# Altium integrated library TI Interface Line Driver.IntLib: 130 symbols (part 2 of 3)
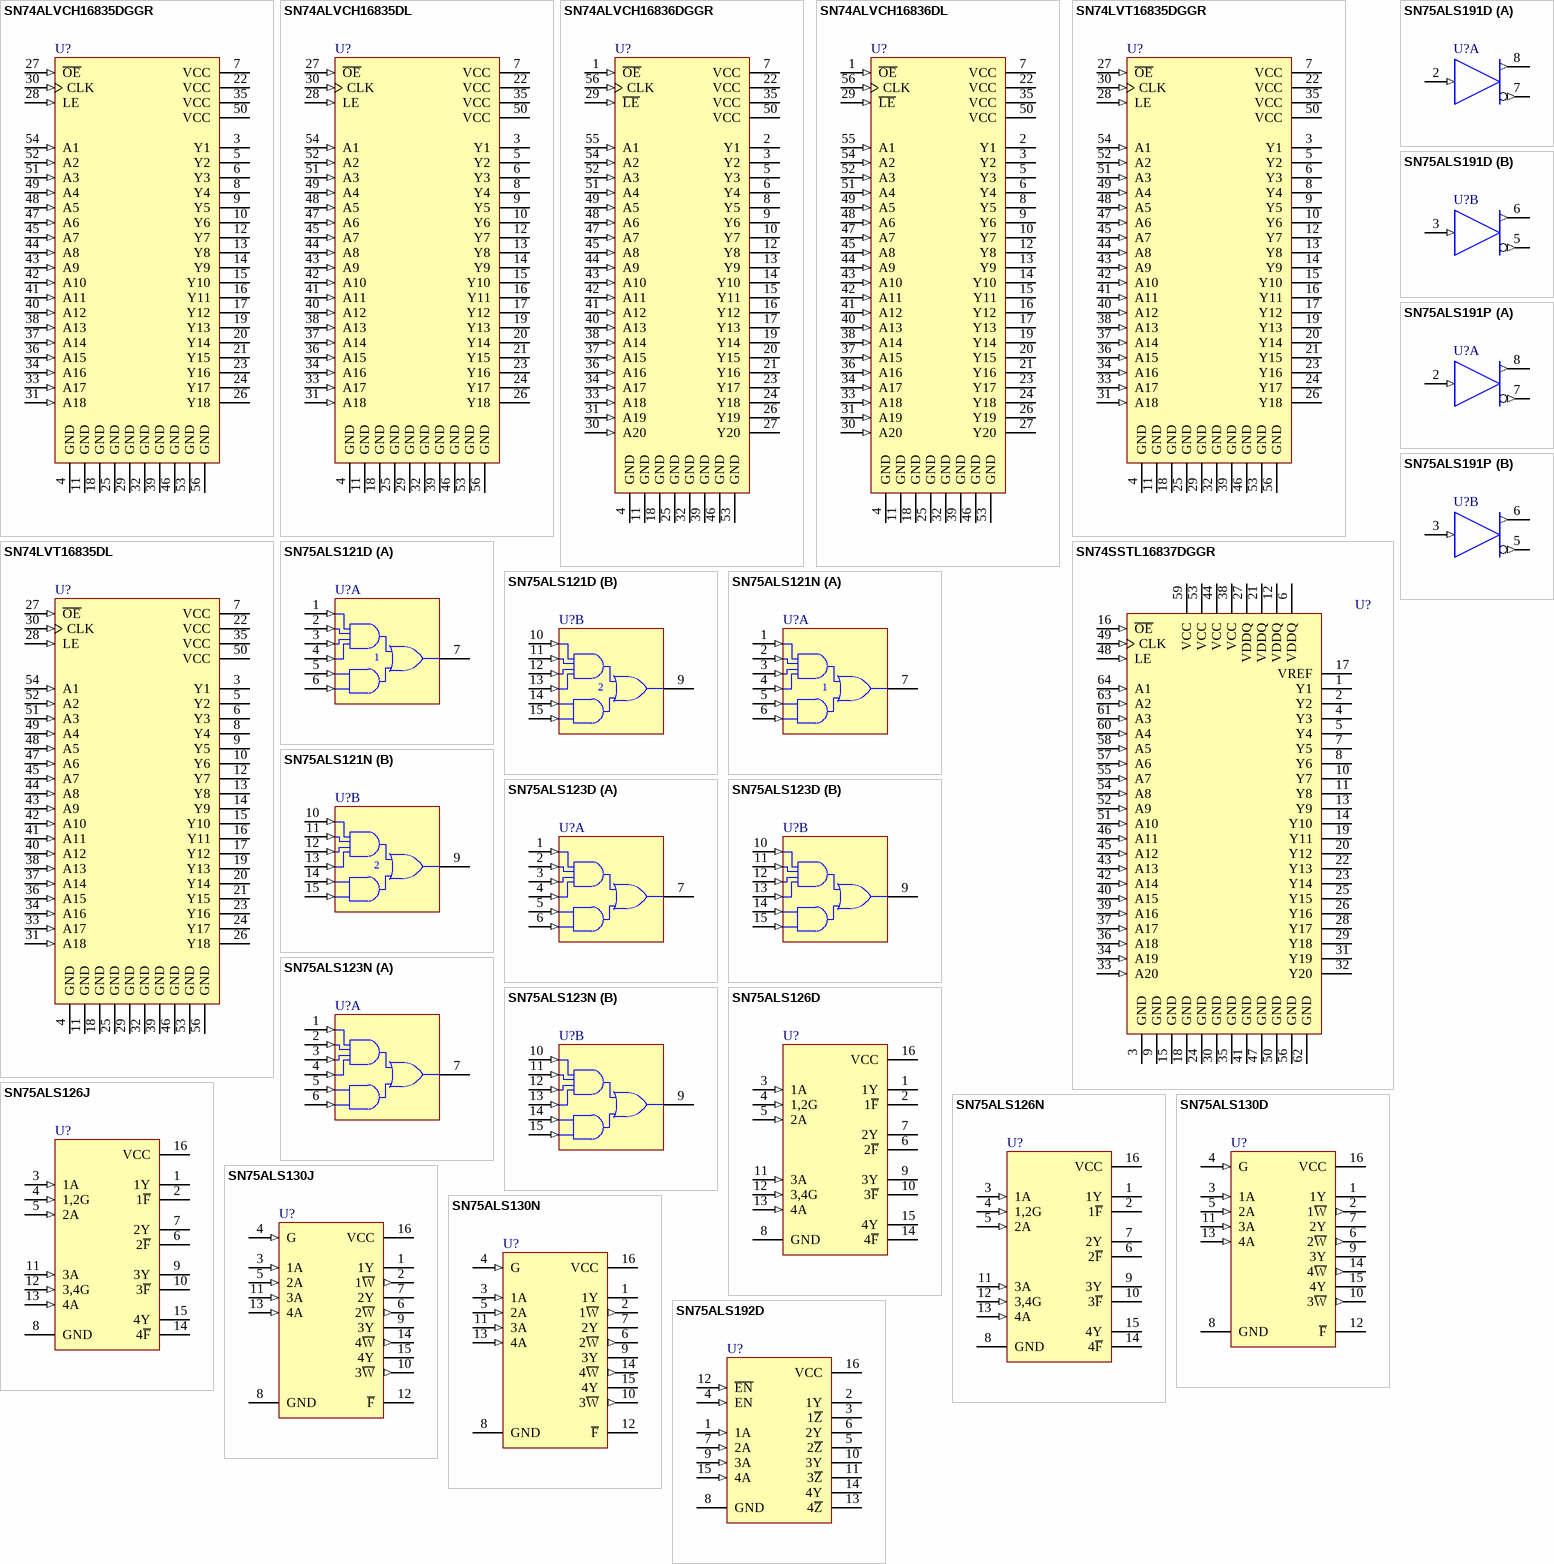
[diagram p5: symbols SN74ALVCH16835DGGR to SN75ALS192D]

## SN75ALS191D
designator U?
Dual Differential Line Driver; Published: 15-May-2002; LatestRevisionDate: 13-Apr-2006; LatestRevisionNote: IPC-7351 Footprint Added.; DatasheetVersion: Aug-1989; PackageVersion: Nov-2006; PackageReference: D008; Publisher: Altium Limited; PackageDescription: 8-Pin Small Outline Integrated Circuit 1.27 mm Pitch; Code_JEDEC: MS-012-AA; Code_IPC: SOIC127P600-8; ComponentLink1Description: Manufacturer Link; ComponentLink1URL: http://www.ti.com/; ComponentLink2Description: Datasheet; ComponentLink2URL: http://www-s.ti.com/sc/ds/sn75als191.pdf
footprint D008_N (SOIC, 8-Leads, Body 4.9x3.9mm, Pitch 1.27mm, IPC Medium Density)
footprint D008_L (SOIC, 8-Leads, Body 4.9x3.9mm, Pitch 1.27mm, IPC High Density)
footprint D008_M (SOIC, 8-Leads, Body 4.9x3.9mm, Pitch 1.27mm, IPC Low Density)
3D model D008 (8-Pin Small Outline Integrated Circuit 1.27 mm Pitch)
pins on every part: 1 VCC (power) hidden to VCC, 4 GND (power) hidden to GND
part A pins: 2 1A (in), 7 1Z (out), 8 1Y (out)
part B pins: 3 2A (in), 5 2Z (out), 6 2Y (out)

## SN75ALS191P
designator U?
Dual Differential Line Driver; Published: 15-May-2002; LatestRevisionDate: 29-May-2009; LatestRevisionNote: Component Body Added.; DatasheetVersion: Aug-1989; PackageVersion: Jun-1999; PackageReference: P008; Publisher: Altium Limited; PackageDescription: DIP, 8-Pin, Row Spacing 7.62 mm, Pitch 2.54 mm; Code_JEDEC: MO-001-AN; ComponentLink1Description: Manufacturer Link; ComponentLink1URL: http://www.ti.com/; ComponentLink2Description: Datasheet; ComponentLink2URL: http://www-s.ti.com/sc/ds/sn75als191.pdf
footprint P008 (DIP, 8-Leads, Row Spacing 7.62mm, Pitch 2.54mm, Body 9.81x6.35mm)
3D model P008 (DIP, 8-Pin, Row Spacing 7.62 mm, Pitch 2.54 mm)
pins on every part: 1 VCC (power) hidden to VCC, 4 GND (power) hidden to GND
part A pins: 2 1A (in), 7 1Z (out), 8 1Y (out)
part B pins: 3 2A (in), 5 2Z (out), 6 2Y (out)

## SN75ALS192D
designator U?
Quadruple Differential Line Driver; Published: 15-May-2002; LatestRevisionDate: 13-Apr-2006; LatestRevisionNote: IPC-7351 Footprint Added.; DatasheetVersion: Jun-1986; PackageVersion: Jan-1998; PackageReference: D016; Publisher: Altium Limited; PackageDescription: 16-Pin Small Outline Integrated Circuit 1.27 mm Pitch; Code_IPC: SOIC127P600-16; ComponentLink1Description: Manufacturer Link; ComponentLink1URL: http://www.ti.com/; ComponentLink2Description: Datasheet; ComponentLink2URL: http://www-s.ti.com/sc/ds/sn75als192.pdf
footprint D016_N (SOIC, 16-Leads, Body 9.9x3.9mm, Pitch 1.27mm, IPC Medium Density)
footprint D016_L (SOIC, 16-Leads, Body 9.9x3.9mm, Pitch 1.27mm, IPC High Density)
footprint D016_M (SOIC, 16-Leads, Body 9.9x3.9mm, Pitch 1.27mm, IPC Low Density)
3D model D016 (16-Pin Small Outline Integrated Circuit 1.27 mm Pitch)
pins: 1 1A (in), 2 1Y (hiz), 3 1~{Z} (hiz), 4 EN (in), 5 2~{Z} (hiz), 6 2Y (hiz), 7 2A (in), 8 GND (power), 9 3A (in), 10 3Y (hiz), 11 3~{Z} (hiz), 12 ~{EN} (in), 13 4~{Z} (hiz), 14 4Y (hiz), 15 4A (in), 16 VCC (power)

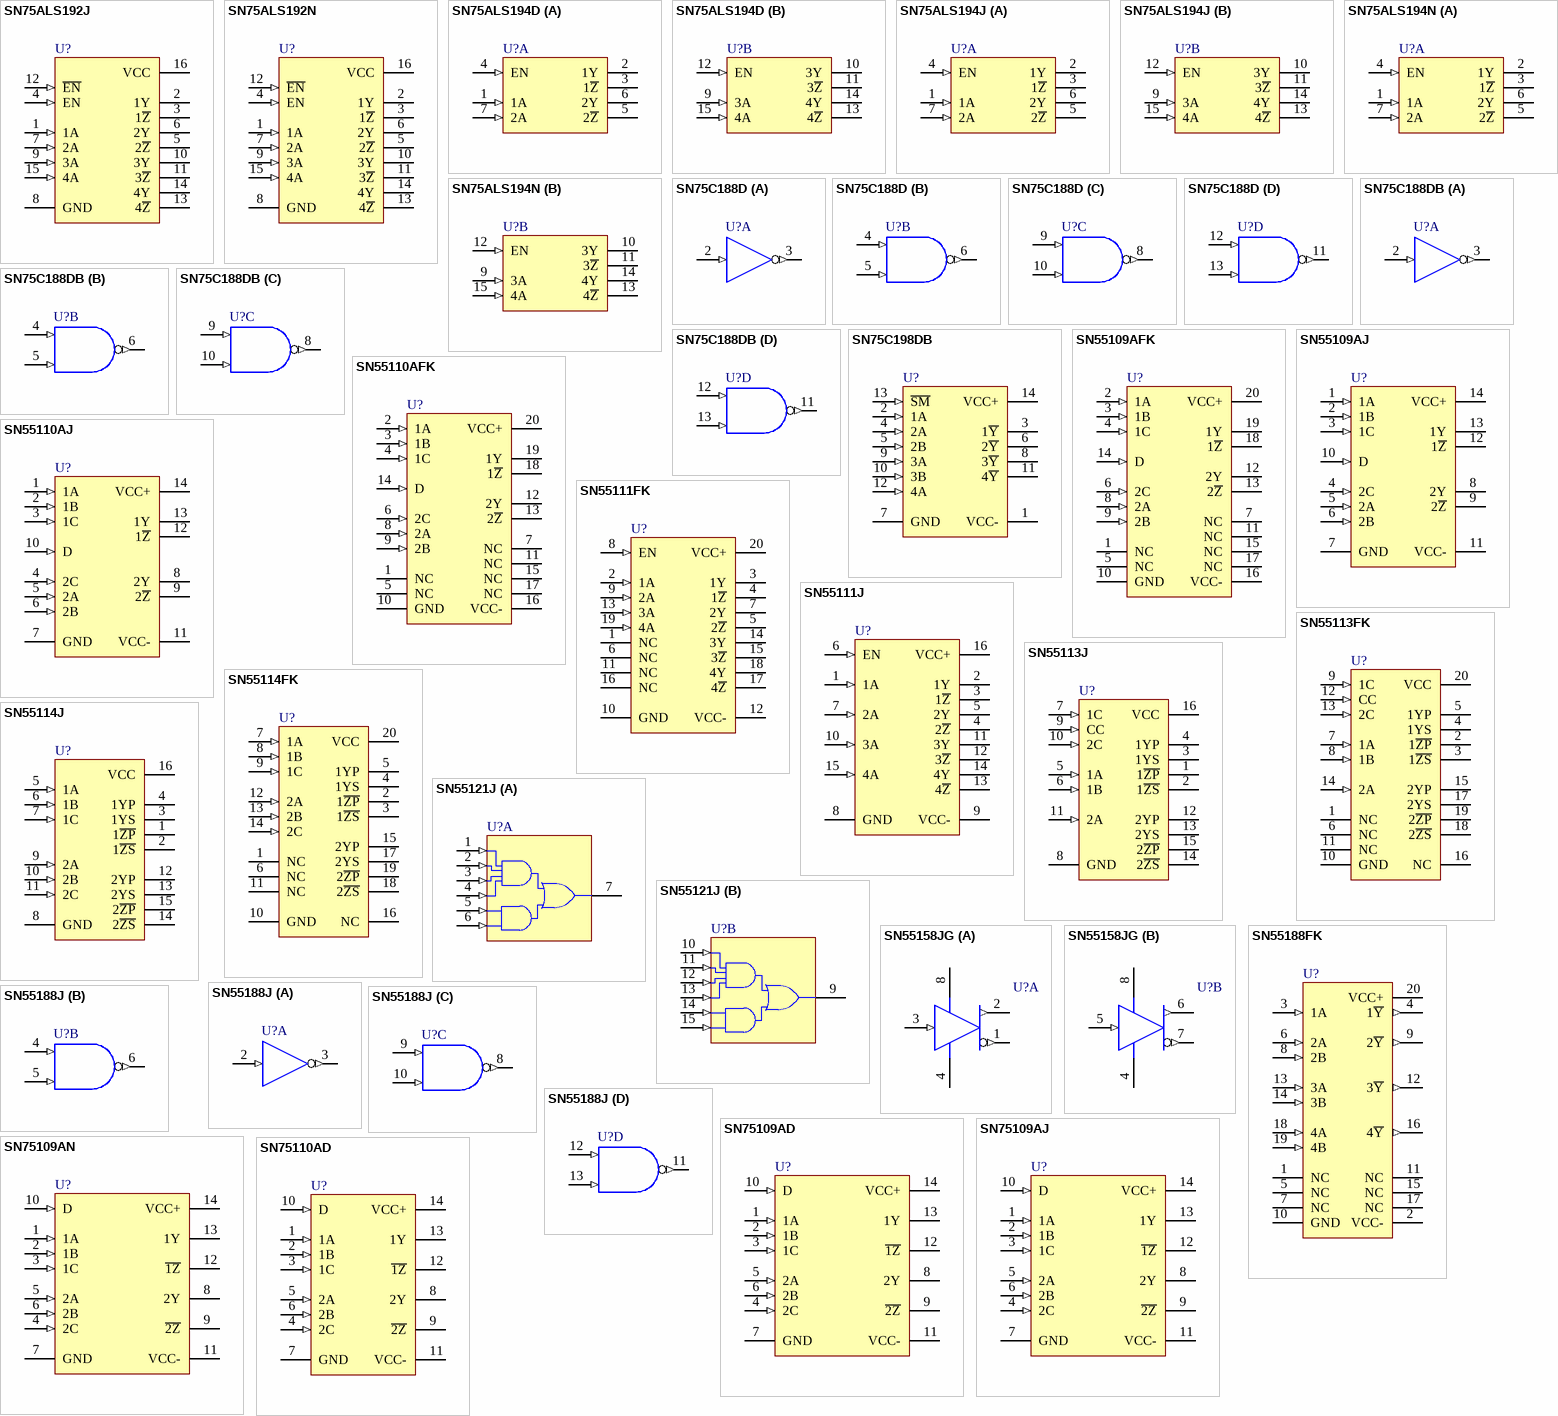
[diagram p2: symbols SN75ALS192J to SN75110AD]

## SN75ALS192J
designator U?
Quadruple Differential Line Driver; Published: 15-May-2002; LatestRevisionDate: 29-May-2009; LatestRevisionNote: Component Body Added.; DatasheetVersion: Jun-1986; PackageVersion: Jun-1999; PackageReference: J016; Publisher: Altium Limited; PackageDescription: DIP, Ceramic, 16-Pin, Row Spacing 7.62 mm, Pitch 2.54 mm; ComponentLink1Description: Manufacturer Link; ComponentLink1URL: http://www.ti.com/
footprint J016 (DIP, 16-Leads, Row Spacing 7.62mm, Pitch 2.54mm, Body 19.56x6.92mm)
3D model J016 (DIP, Ceramic, 16-Pin, Row Spacing 7.62 mm, Pitch 2.54 mm)
pins: 1 1A (in), 2 1Y (hiz), 3 1~{Z} (hiz), 4 EN (in), 5 2~{Z} (hiz), 6 2Y (hiz), 7 2A (in), 8 GND (power), 9 3A (in), 10 3Y (hiz), 11 3~{Z} (hiz), 12 ~{EN} (in), 13 4~{Z} (hiz), 14 4Y (hiz), 15 4A (in), 16 VCC (power)

## SN75ALS192N
designator U?
Quadruple Differential Line Driver; Published: 15-May-2002; LatestRevisionDate: 29-May-2009; LatestRevisionNote: Component Body Added.; DatasheetVersion: Jun-1986; PackageVersion: Oct-1995; PackageReference: N016; Publisher: Altium Limited; PackageDescription: DIP, 16-Pin, Row Spacing 7.62 mm, Pitch 2.54 mm; Code_JEDEC: MS-001-BB; ComponentLink1Description: Manufacturer Link; ComponentLink1URL: http://www.ti.com/; ComponentLink2Description: Datasheet; ComponentLink2URL: http://www-s.ti.com/sc/ds/sn75als192.pdf
footprint N016 (DIP, 16-Leads, Row Spacing 7.62mm, Pitch 2.54mm, Body 19.31x6.35mm)
3D model N016 (DIP, 16-Pin, Row Spacing 7.62 mm, Pitch 2.54 mm)
pins: 1 1A (in), 2 1Y (hiz), 3 1~{Z} (hiz), 4 EN (in), 5 2~{Z} (hiz), 6 2Y (hiz), 7 2A (in), 8 GND (power), 9 3A (in), 10 3Y (hiz), 11 3~{Z} (hiz), 12 ~{EN} (in), 13 4~{Z} (hiz), 14 4Y (hiz), 15 4A (in), 16 VCC (power)

## SN75ALS194D
designator U?
Quadruple Differential Line Driver with 3-State Output; Published: 15-May-2002; LatestRevisionDate: 13-Apr-2006; LatestRevisionNote: IPC-7351 Footprint Added.; DatasheetVersion: Oct-1988; PackageVersion: Jan-1998; PackageReference: D016; Publisher: Altium Limited; PackageDescription: 16-Pin Small Outline Integrated Circuit 1.27 mm Pitch; Code_IPC: SOIC127P600-16; ComponentLink1Description: Manufacturer Link; ComponentLink1URL: http://www.ti.com/; ComponentLink2Description: Datasheet; ComponentLink2URL: http://www-s.ti.com/sc/ds/sn75als194.pdf
footprint D016_N (SOIC, 16-Leads, Body 9.9x3.9mm, Pitch 1.27mm, IPC Medium Density)
footprint D016_L (SOIC, 16-Leads, Body 9.9x3.9mm, Pitch 1.27mm, IPC High Density)
footprint D016_M (SOIC, 16-Leads, Body 9.9x3.9mm, Pitch 1.27mm, IPC Low Density)
3D model D016 (16-Pin Small Outline Integrated Circuit 1.27 mm Pitch)
pins on every part: 8 GND (power) hidden to GND, 16 VCC (power) hidden to VCC
part A pins: 1 1A (in), 2 1Y (hiz), 3 1~{Z} (hiz), 4 EN (in), 5 2~{Z} (hiz), 6 2Y (hiz), 7 2A (in)
part B pins: 9 3A (in), 10 3Y (hiz), 11 3~{Z} (hiz), 12 EN (in), 13 4~{Z} (hiz), 14 4Y (hiz), 15 4A (in)

## SN75ALS194J
designator U?
Quadruple Differential Line Driver with 3-State Output; Published: 15-May-2002; LatestRevisionDate: 29-May-2009; LatestRevisionNote: Component Body Added.; DatasheetVersion: Oct-1988; PackageVersion: Jun-1999; PackageReference: J016; Publisher: Altium Limited; PackageDescription: DIP, Ceramic, 16-Pin, Row Spacing 7.62 mm, Pitch 2.54 mm; ComponentLink1Description: Manufacturer Link; ComponentLink1URL: http://www.ti.com/
footprint J016 (DIP, 16-Leads, Row Spacing 7.62mm, Pitch 2.54mm, Body 19.56x6.92mm)
3D model J016 (DIP, Ceramic, 16-Pin, Row Spacing 7.62 mm, Pitch 2.54 mm)
pins on every part: 8 GND (power) hidden to GND, 16 VCC (power) hidden to VCC
part A pins: 1 1A (in), 2 1Y (hiz), 3 1~{Z} (hiz), 4 EN (in), 5 2~{Z} (hiz), 6 2Y (hiz), 7 2A (in)
part B pins: 9 3A (in), 10 3Y (hiz), 11 3~{Z} (hiz), 12 EN (in), 13 4~{Z} (hiz), 14 4Y (hiz), 15 4A (in)

## SN75ALS194N
designator U?
Quadruple Differential Line Driver with 3-State Output; Published: 15-May-2002; LatestRevisionDate: 29-May-2009; LatestRevisionNote: Component Body Added.; DatasheetVersion: Oct-1988; PackageVersion: Oct-1995; PackageReference: N016; Publisher: Altium Limited; PackageDescription: DIP, 16-Pin, Row Spacing 7.62 mm, Pitch 2.54 mm; Code_JEDEC: MS-001-BB; ComponentLink1Description: Manufacturer Link; ComponentLink1URL: http://www.ti.com/; ComponentLink2Description: Datasheet; ComponentLink2URL: http://www-s.ti.com/sc/ds/sn75als194.pdf
footprint N016 (DIP, 16-Leads, Row Spacing 7.62mm, Pitch 2.54mm, Body 19.31x6.35mm)
3D model N016 (DIP, 16-Pin, Row Spacing 7.62 mm, Pitch 2.54 mm)
pins on every part: 8 GND (power) hidden to GND, 16 VCC (power) hidden to VCC
part A pins: 1 1A (in), 2 1Y (hiz), 3 1~{Z} (hiz), 4 EN (in), 5 2~{Z} (hiz), 6 2Y (hiz), 7 2A (in)
part B pins: 9 3A (in), 10 3Y (hiz), 11 3~{Z} (hiz), 12 EN (in), 13 4~{Z} (hiz), 14 4Y (hiz), 15 4A (in)

## SN75C188D
designator U?
Quadruple Low Power Line Driver; Published: 15-May-2002; LatestRevisionDate: 13-Apr-2006; LatestRevisionNote: IPC-7351 Footprint Added.; DatasheetVersion: May-1990; PackageVersion: Nov-2006; PackageReference: D014; Publisher: Altium Limited; PackageDescription: 14-Pin Small Outline Integrated Circuit 1.27 mm Pitch; Code_JEDEC: MS-012-AB; Code_IPC: SOIC127P600-14; ComponentLink1Description: Manufacturer Link; ComponentLink1URL: http://www.ti.com/; ComponentLink2Description: Datasheet; ComponentLink2URL: http://www-s.ti.com/sc/ds/sn75c188.pdf
footprint D014_N (SOIC, 14-Leads, Body 8.7x3.9mm, Pitch 1.27mm, IPC Medium Density)
footprint D014_L (SOIC, 14-Leads, Body 8.7x3.9mm, Pitch 1.27mm, IPC High Density)
footprint D014_M (SOIC, 14-Leads, Body 8.7x3.9mm, Pitch 1.27mm, IPC Low Density)
3D model D014 (14-Pin Small Outline Integrated Circuit 1.27 mm Pitch)
pins on every part: 1 VCC- (power) hidden to VCC-, 7 GND (power) hidden to GND, 14 VCC+ (power) hidden to VCC+
part A pins: 2 A (in), 3 ~{Y} (out)
part B pins: 4 A (in), 5 B (in), 6 ~{Y} (out)
part C pins: 8 ~{Y} (out), 9 A (in), 10 B (in)
part D pins: 11 ~{Y} (out), 12 A (in), 13 B (in)

## SN75C188DB
designator U?
Quadruple Low Power Line Driver; Published: 15-May-2002; LatestRevisionDate: 29-May-2009; LatestRevisionNote: IPC-7351 Footprint Added.; DatasheetVersion: May-1990; PackageVersion: May-1999; PackageReference: DB014; Publisher: Altium Limited; PackageDescription: 14-Pin Plastic Small Outline Package 0.65 mm Pitch; Code_JEDEC: MO-150-AB; Code_IPC: SOP65P780-14; ComponentLink1Description: Manufacturer Link; ComponentLink1URL: http://www.ti.com/; ComponentLink2Description: Datasheet; ComponentLink2URL: http://www-s.ti.com/sc/ds/sn75c188.pdf
footprint DB014_N (SOP, 14-Leads, Body 6.2x5.3mm, Pitch 0.65mm, IPC Medium Density)
footprint DB014_L (SOP, 14-Leads, Body 6.2x5.3mm, Pitch 0.65mm, IPC High Density)
footprint DB014_M (SOP, 14-Leads, Body 6.2x5.3mm, Pitch 0.65mm, IPC Low Density)
3D model DB014 (14-Pin Plastic Small Outline Package 0.65 mm Pitch)
pins on every part: 1 VCC- (power) hidden to VCC-, 7 GND (power) hidden to GND, 14 VCC+ (power) hidden to VCC+
part A pins: 2 A (in), 3 ~{Y} (out)
part B pins: 4 A (in), 5 B (in), 6 ~{Y} (out)
part C pins: 8 ~{Y} (out), 9 A (in), 10 B (in)
part D pins: 11 ~{Y} (out), 12 A (in), 13 B (in)

## SN75C198DB
designator U?
Quadruple Low-Power Line Driver; Published: 15-May-2002; LatestRevisionDate: 29-May-2009; LatestRevisionNote: IPC-7351 Footprint Added.; DatasheetVersion: Jul-1990; PackageVersion: May-1999; PackageReference: DB014; Publisher: Altium Limited; PackageDescription: 14-Pin Plastic Small Outline Package 0.65 mm Pitch; Code_JEDEC: MO-150-AB; Code_IPC: SOP65P780-14; ComponentLink1Description: Manufacturer Link; ComponentLink1URL: http://www.ti.com/
footprint DB014_N (SOP, 14-Leads, Body 6.2x5.3mm, Pitch 0.65mm, IPC Medium Density)
footprint DB014_L (SOP, 14-Leads, Body 6.2x5.3mm, Pitch 0.65mm, IPC High Density)
footprint DB014_M (SOP, 14-Leads, Body 6.2x5.3mm, Pitch 0.65mm, IPC Low Density)
3D model DB014 (14-Pin Plastic Small Outline Package 0.65 mm Pitch)
pins: 1 VCC- (power), 2 1A (in), 3 1~{Y} (hiz), 4 2A (in), 5 2B (in), 6 2~{Y} (hiz), 7 GND (power), 8 3~{Y} (hiz), 9 3A (in), 10 3B (in), 11 4~{Y} (hiz), 12 4A (in), 13 ~{SM} (in), 14 VCC+ (power)

## SN55109AFK
designator U?
Dual Line Driver; Published: 15-May-2002; LatestRevisionDate: 29-May-2009; LatestRevisionNote: IPC-7351 Footprint Added.; DatasheetVersion: May-1990; PackageVersion: 1998; PackageReference: FK020; Publisher: Altium Limited; PackageDescription: 20-Pin Leadless Chip Carrier 1.27 mm Pitch; Code_JEDEC: MS-004-CB; ComponentLink1Description: Manufacturer Link; ComponentLink1URL: http://www.ti.com/
footprint FK020_N (Leadless Chip Carrier, 20-Leads, Body 8.9x8.9mm, Pitch 1.27mm, IPC Medium Density)
footprint FK020_L (Leadless Chip Carrier, 20-Leads, Body 8.9x8.9mm, Pitch 1.27mm, IPC High Density)
footprint FK020_M (Leadless Chip Carrier, 20-Leads, Body 8.9x8.9mm, Pitch 1.27mm, IPC Low Density)
pins: 1 NC, 2 1A (in), 3 1B (in), 4 1C (in), 5 NC, 6 2C (in), 7 NC, 8 2A (in), 9 2B (in), 10 GND (power), 11 NC, 12 2Y (oc), 13 2~{Z} (oc), 14 D (in), 15 NC, 16 VCC- (power), 17 NC, 18 1~{Z} (oc), 19 1Y (oc), 20 VCC+ (power)

## SN55109AJ
designator U?
Dual Line Driver; ComponentAvailability: Obsolete; Published: 15-May-2002; LatestRevisionDate: 29-May-2009; LatestRevisionNote: Component Body Added.; DatasheetVersion: May-1990; PackageVersion: Jun-1999; PackageReference: J014; Publisher: Altium Limited; PackageDescription: DIP, Ceramic, 14-Pin, Row Spacing 7.62 mm, Pitch 2.54 mm; ComponentLink1Description: Manufacturer Link; ComponentLink1URL: http://www.ti.com/; ComponentLink2Description: URL Link1; ComponentLink2URL: http://focus.ti.com/docs/prod/folders/print/sn55109a.html
footprint J014 (DIP, 14-Leads, Row Spacing 7.62mm, Pitch 2.54mm, Body 19.56x6.92mm)
3D model J014 (DIP, Ceramic, 14-Pin, Row Spacing 7.62 mm, Pitch 2.54 mm)
pins: 1 1A (in), 2 1B (in), 3 1C (in), 4 2C (in), 5 2A (in), 6 2B (in), 7 GND (power), 8 2Y (oc), 9 2~{Z} (oc), 10 D (in), 11 VCC- (power), 12 1~{Z} (oc), 13 1Y (oc), 14 VCC+ (power)

## SN55110AFK
designator U?
Dual Line Driver; Published: 15-May-2002; LatestRevisionDate: 29-May-2009; LatestRevisionNote: IPC-7351 Footprint Added.; DatasheetVersion: May-1990; PackageVersion: 1998; PackageReference: FK020; Publisher: Altium Limited; PackageDescription: 20-Pin Leadless Chip Carrier 1.27 mm Pitch; Code_JEDEC: MS-004-CB; ComponentLink1Description: Manufacturer Link; ComponentLink1URL: http://www.ti.com/
footprint FK020_N (Leadless Chip Carrier, 20-Leads, Body 8.9x8.9mm, Pitch 1.27mm, IPC Medium Density)
footprint FK020_L (Leadless Chip Carrier, 20-Leads, Body 8.9x8.9mm, Pitch 1.27mm, IPC High Density)
footprint FK020_M (Leadless Chip Carrier, 20-Leads, Body 8.9x8.9mm, Pitch 1.27mm, IPC Low Density)
pins: 1 NC, 2 1A (in), 3 1B (in), 4 1C (in), 5 NC, 6 2C (in), 7 NC, 8 2A (in), 9 2B (in), 10 GND (power), 11 NC, 12 2Y (oc), 13 2~{Z} (oc), 14 D (in), 15 NC, 16 VCC- (power), 17 NC, 18 1~{Z} (oc), 19 1Y (oc), 20 VCC+ (power)

## SN55110AJ
designator U?
Dual Line Driver; Published: 15-May-2002; LatestRevisionDate: 29-May-2009; LatestRevisionNote: Component Body Added.; DatasheetVersion: May-1990; PackageVersion: Jun-1999; PackageReference: J014; Publisher: Altium Limited; PackageDescription: DIP, Ceramic, 14-Pin, Row Spacing 7.62 mm, Pitch 2.54 mm; ComponentLink1Description: Manufacturer Link; ComponentLink1URL: http://www.ti.com/; ComponentLink2Description: Datasheet; ComponentLink2URL: http://www-s.ti.com/sc/ds/sn55110a.pdf
footprint J014 (DIP, 14-Leads, Row Spacing 7.62mm, Pitch 2.54mm, Body 19.56x6.92mm)
3D model J014 (DIP, Ceramic, 14-Pin, Row Spacing 7.62 mm, Pitch 2.54 mm)
pins: 1 1A (in), 2 1B (in), 3 1C (in), 4 2C (in), 5 2A (in), 6 2B (in), 7 GND (power), 8 2Y (oc), 9 2~{Z} (oc), 10 D (in), 11 VCC- (power), 12 1~{Z} (oc), 13 1Y (oc), 14 VCC+ (power)

## SN55111FK
designator U?
Quadruple Line Driver with Common Enable; Note: To minimise power dissipation, all unused inputs should be grounded.; Published: 15-May-2002; LatestRevisionDate: 29-May-2009; LatestRevisionNote: IPC-7351 Footprint Added.; DatasheetVersion: Oct-1988; PackageVersion: 1998; PackageReference: FK020; Publisher: Altium Limited; PackageDescription: 20-Pin Leadless Chip Carrier 1.27 mm Pitch; Code_JEDEC: MS-004-CB; ComponentLink1Description: Manufacturer Link; ComponentLink1URL: http://www.ti.com/
footprint FK020_N (Leadless Chip Carrier, 20-Leads, Body 8.9x8.9mm, Pitch 1.27mm, IPC Medium Density)
footprint FK020_L (Leadless Chip Carrier, 20-Leads, Body 8.9x8.9mm, Pitch 1.27mm, IPC High Density)
footprint FK020_M (Leadless Chip Carrier, 20-Leads, Body 8.9x8.9mm, Pitch 1.27mm, IPC Low Density)
pins: 1 NC, 2 1A (in), 3 1Y (oc), 4 1~{Z} (oc), 5 2~{Z} (oc), 6 NC, 7 2Y (oc), 8 EN (in), 9 2A (in), 10 GND (power), 11 NC, 12 VCC- (power), 13 3A (in), 14 3Y (oc), 15 3~{Z} (oc), 16 NC, 17 4~{Z} (oc), 18 4Y (oc), 19 4A (in), 20 VCC+ (power)

## SN55111J
designator U?
Quadruple Line Driver with Common Enable; Note: To minimise power dissipation, all unused inputs should be grounded.; Published: 15-May-2002; LatestRevisionDate: 29-May-2009; LatestRevisionNote: Component Body Added.; DatasheetVersion: Oct-1988; PackageVersion: Jun-1999; PackageReference: J016; Publisher: Altium Limited; PackageDescription: DIP, Ceramic, 16-Pin, Row Spacing 7.62 mm, Pitch 2.54 mm; ComponentLink1Description: Manufacturer Link; ComponentLink1URL: http://www.ti.com/
footprint J016 (DIP, 16-Leads, Row Spacing 7.62mm, Pitch 2.54mm, Body 19.56x6.92mm)
3D model J016 (DIP, Ceramic, 16-Pin, Row Spacing 7.62 mm, Pitch 2.54 mm)
pins: 1 1A (in), 2 1Y (oc), 3 1~{Z} (oc), 4 2~{Z} (oc), 5 2Y (oc), 6 EN (in), 7 2A (in), 8 GND (power), 9 VCC- (power), 10 3A (in), 11 3Y (oc), 12 3~{Z} (oc), 13 4~{Z} (oc), 14 4Y (oc), 15 4A (in), 16 VCC+ (power)

## SN55113FK
designator U?
Dual Differential Line Driver; Note: Choice of Open-Collector, Open-Emitter, or Hi-Z outputs.; Published: 15-May-2002; LatestRevisionDate: 29-May-2009; LatestRevisionNote: IPC-7351 Footprint Added.; DatasheetVersion: Sep-1986; PackageVersion: 1998; PackageReference: FK020; Publisher: Altium Limited; PackageDescription: 20-Pin Leadless Chip Carrier 1.27 mm Pitch; Code_JEDEC: MS-004-CB; ComponentLink1Description: Manufacturer Link; ComponentLink1URL: http://www.ti.com/
footprint FK020_N (Leadless Chip Carrier, 20-Leads, Body 8.9x8.9mm, Pitch 1.27mm, IPC Medium Density)
footprint FK020_L (Leadless Chip Carrier, 20-Leads, Body 8.9x8.9mm, Pitch 1.27mm, IPC High Density)
footprint FK020_M (Leadless Chip Carrier, 20-Leads, Body 8.9x8.9mm, Pitch 1.27mm, IPC Low Density)
pins: 1 NC, 2 1~{ZP} (hiz), 3 1~{ZS} (hiz), 4 1YS (hiz), 5 1YP (hiz), 6 NC, 7 1A (in), 8 1B (in), 9 1C (in), 10 GND (power), 11 NC, 12 CC (in), 13 2C (in), 14 2A (in), 15 2YP (hiz), 16 NC, 17 2YS (hiz), 18 2~{ZS} (hiz), 19 2~{ZP} (hiz), 20 VCC (power)

## SN55113J
designator U?
Dual Differential Line Driver; Note: Choice of Open-Collector, Open-Emitter, or Hi-Z outputs.; Published: 15-May-2002; LatestRevisionDate: 29-May-2009; LatestRevisionNote: Component Body Added.; DatasheetVersion: Sep-1986; PackageVersion: Jun-1999; PackageReference: J016; Publisher: Altium Limited; PackageDescription: DIP, Ceramic, 16-Pin, Row Spacing 7.62 mm, Pitch 2.54 mm; ComponentLink1Description: Manufacturer Link; ComponentLink1URL: http://www.ti.com/; ComponentLink2Description: Datasheet; ComponentLink2URL: http://www-s.ti.com/sc/ds/sn55113.pdf
footprint J016 (DIP, 16-Leads, Row Spacing 7.62mm, Pitch 2.54mm, Body 19.56x6.92mm)
3D model J016 (DIP, Ceramic, 16-Pin, Row Spacing 7.62 mm, Pitch 2.54 mm)
pins: 1 1~{ZP} (hiz), 2 1~{ZS} (hiz), 3 1YS (hiz), 4 1YP (hiz), 5 1A (in), 6 1B (in), 7 1C (in), 8 GND (power), 9 CC (in), 10 2C (in), 11 2A (in), 12 2YP (hiz), 13 2YS (hiz), 14 2~{ZS} (hiz), 15 2~{ZP} (hiz), 16 VCC (power)

## SN55114FK
designator U?
Dual Differential Line Driver; Note: Choice of Open-Collector, Open-Emitter, or Totem-Pole outputs.; Published: 15-May-2002; LatestRevisionDate: 29-May-2009; LatestRevisionNote: IPC-7351 Footprint Added.; DatasheetVersion: Sep-1986; PackageVersion: 1998; PackageReference: FK020; Publisher: Altium Limited; PackageDescription: 20-Pin Leadless Chip Carrier 1.27 mm Pitch; Code_JEDEC: MS-004-CB; ComponentLink1Description: Manufacturer Link; ComponentLink1URL: http://www.ti.com/
footprint FK020_N (Leadless Chip Carrier, 20-Leads, Body 8.9x8.9mm, Pitch 1.27mm, IPC Medium Density)
footprint FK020_L (Leadless Chip Carrier, 20-Leads, Body 8.9x8.9mm, Pitch 1.27mm, IPC High Density)
footprint FK020_M (Leadless Chip Carrier, 20-Leads, Body 8.9x8.9mm, Pitch 1.27mm, IPC Low Density)
pins: 1 NC, 2 1~{ZP} (oe), 3 1~{ZS} (oc), 4 1YS (oc), 5 1YP (oe), 6 NC, 7 1A (in), 8 1B (in), 9 1C (in), 10 GND (power), 11 NC, 12 2A (in), 13 2B (in), 14 2C (in), 15 2YP (oe), 16 NC, 17 2YS (oc), 18 2~{ZS} (oc), 19 2~{ZP} (oe), 20 VCC (power)

## SN55114J
designator U?
Dual Differential Line Driver; Note: Choice of Open-Collector, Open-Emitter, or Totem-Pole outputs.; Published: 15-May-2002; LatestRevisionDate: 29-May-2009; LatestRevisionNote: Component Body Added.; DatasheetVersion: Sep-1986; PackageVersion: Jun-1999; PackageReference: J016; Publisher: Altium Limited; PackageDescription: DIP, Ceramic, 16-Pin, Row Spacing 7.62 mm, Pitch 2.54 mm; ComponentLink1Description: Manufacturer Link; ComponentLink1URL: http://www.ti.com/; ComponentLink2Description: Datasheet; ComponentLink2URL: http://www-s.ti.com/sc/ds/sn55114.pdf
footprint J016 (DIP, 16-Leads, Row Spacing 7.62mm, Pitch 2.54mm, Body 19.56x6.92mm)
3D model J016 (DIP, Ceramic, 16-Pin, Row Spacing 7.62 mm, Pitch 2.54 mm)
pins: 1 1~{ZP} (oe), 2 1~{ZS} (oc), 3 1YS (oc), 4 1YP (oe), 5 1A (in), 6 1B (in), 7 1C (in), 8 GND (power), 9 2A (in), 10 2B (in), 11 2C (in), 12 2YP (oe), 13 2YS (oc), 14 2~{ZS} (oc), 15 2~{ZP} (oe), 16 VCC (power)

## SN55121J
designator U?
Dual Line Driver; Note: Open-Emitter outputs are uncommitted, allowing AND-OR logic configurations.; ComponentAvailability: Obsolete; Published: 15-May-2002; LatestRevisionDate: 29-May-2009; LatestRevisionNote: Component Body Added.; DatasheetVersion: Sep-1986; PackageVersion: Jun-1999; PackageReference: J016; Publisher: Altium Limited; PackageDescription: DIP, Ceramic, 16-Pin, Row Spacing 7.62 mm, Pitch 2.54 mm; ComponentLink1Description: Manufacturer Link; ComponentLink1URL: http://www.ti.com/; ComponentLink2Description: Datasheet; ComponentLink2URL: http://www-s.ti.com/sc/ds/sn55121.pdf
footprint J016 (DIP, 16-Leads, Row Spacing 7.62mm, Pitch 2.54mm, Body 19.56x6.92mm)
3D model J016 (DIP, Ceramic, 16-Pin, Row Spacing 7.62 mm, Pitch 2.54 mm)
pins on every part: 8 GND (power) hidden to GND, 16 VCC (power) hidden to VCC
part A pins: 1 A (in), 2 B (in), 3 C (in), 4 D (in), 5 E (in), 6 F (in), 7 Y (oe)
part B pins: 9 Y (oe), 10 A (in), 11 B (in), 12 C (in), 13 D (in), 14 E (in), 15 F (in)

## SN55158JG
designator U?
Dual Differential Line Receiver; Published: 15-May-2002; LatestRevisionDate: 29-May-2009; LatestRevisionNote: Component Body Added.; DatasheetVersion: Sep-1986; PackageVersion: Jan-1995; PackageReference: JG008; Publisher: Altium Limited; PackageDescription: DIP, Ceramic, 8-Pin, Row Spacing 7.62 mm, Pitch 2.54 mm; ComponentLink1Description: Manufacturer Link; ComponentLink1URL: http://www.ti.com/
footprint JG008 (DIP, 8-Leads, Row Spacing 7.62mm, Pitch 2.54mm, Body 9.58x6.67mm)
3D model JG008 (DIP, Ceramic, 8-Pin, Row Spacing 7.62 mm, Pitch 2.54 mm)
pins on every part: 4 GND (power), 8 VCC (power)
part A pins: 1 1Z (out), 2 1Y (out), 3 1A (in)
part B pins: 5 2A (in), 6 2Y (out), 7 2Z (out)

## SN55188FK
designator U?
Quadruple Line Driver; Published: 15-May-2002; LatestRevisionDate: 29-May-2009; LatestRevisionNote: IPC-7351 Footprint Added.; DatasheetVersion: Sep-1986; PackageVersion: 1998; PackageReference: FK020; Publisher: Altium Limited; PackageDescription: 20-Pin Leadless Chip Carrier 1.27 mm Pitch; Code_JEDEC: MS-004-CB; ComponentLink1Description: Manufacturer Link; ComponentLink1URL: http://www.ti.com/
footprint FK020_N (Leadless Chip Carrier, 20-Leads, Body 8.9x8.9mm, Pitch 1.27mm, IPC Medium Density)
footprint FK020_L (Leadless Chip Carrier, 20-Leads, Body 8.9x8.9mm, Pitch 1.27mm, IPC High Density)
footprint FK020_M (Leadless Chip Carrier, 20-Leads, Body 8.9x8.9mm, Pitch 1.27mm, IPC Low Density)
pins: 1 NC, 2 VCC- (power), 3 1A (in), 4 1~{Y} (out), 5 NC, 6 2A (in), 7 NC, 8 2B (in), 9 2~{Y} (out), 10 GND (power), 11 NC, 12 3~{Y} (out), 13 3A (in), 14 3B (in), 15 NC, 16 4~{Y} (out), 17 NC, 18 4A (in), 19 4B (in), 20 VCC+ (power)

## SN55188J
designator U?
Quadruple Line Driver; Published: 15-May-2002; LatestRevisionDate: 29-May-2009; LatestRevisionNote: Component Body Added.; DatasheetVersion: Sep-1986; PackageVersion: Jun-1999; PackageReference: J014; Publisher: Altium Limited; PackageDescription: DIP, Ceramic, 14-Pin, Row Spacing 7.62 mm, Pitch 2.54 mm; ComponentLink1Description: Manufacturer Link; ComponentLink1URL: http://www.ti.com/; ComponentLink2Description: Datasheet; ComponentLink2URL: http://www-s.ti.com/sc/ds/sn55188.pdf
footprint J014 (DIP, 14-Leads, Row Spacing 7.62mm, Pitch 2.54mm, Body 19.56x6.92mm)
3D model J014 (DIP, Ceramic, 14-Pin, Row Spacing 7.62 mm, Pitch 2.54 mm)
pins on every part: 1 VCC- (power) hidden to VCC-, 7 GND (power) hidden to GND, 14 VCC+ (power) hidden to VCC+
part A pins: 2 A (in), 3 ~{Y} (out)
part B pins: 4 A (in), 5 B (in), 6 ~{Y} (out)
part C pins: 8 ~{Y} (out), 9 A (in), 10 B (in)
part D pins: 11 ~{Y} (out), 12 A (in), 13 B (in)

## SN75109AD
designator U?
Dual Line Driver; Note: When using only one channel, the other channel should be inhibited and/or have it's outputs grounded.; Published: 15-May-2002; LatestRevisionDate: 13-Apr-2006; LatestRevisionNote: IPC-7351 Footprint Added.; DatasheetVersion: May-1990; PackageVersion: Nov-2006; PackageReference: D014; Publisher: Altium Limited; PackageDescription: 14-Pin Small Outline Integrated Circuit 1.27 mm Pitch; Code_JEDEC: MS-012-AB; Code_IPC: SOIC127P600-14; ComponentLink1Description: Manufacturer Link; ComponentLink1URL: http://www.ti.com/
footprint D014_N (SOIC, 14-Leads, Body 8.7x3.9mm, Pitch 1.27mm, IPC Medium Density)
footprint D014_L (SOIC, 14-Leads, Body 8.7x3.9mm, Pitch 1.27mm, IPC High Density)
footprint D014_M (SOIC, 14-Leads, Body 8.7x3.9mm, Pitch 1.27mm, IPC Low Density)
3D model D014 (14-Pin Small Outline Integrated Circuit 1.27 mm Pitch)
pins: 1 1A (in), 2 1B (in), 3 1C (in), 4 2C (in), 5 2A (in), 6 2B (in), 7 GND (power), 8 2Y (oc), 9 ~{2Z} (oc), 10 D (in), 11 VCC- (power), 12 ~{1Z} (oc), 13 1Y (oc), 14 VCC+ (power)

## SN75109AJ
designator U?
Dual Line Driver; Note: When using only one channel, the other channel should be inhibited and/or have it's outputs grounded.; Published: 15-May-2002; LatestRevisionDate: 29-May-2009; LatestRevisionNote: Component Body Added.; DatasheetVersion: May-1990; PackageVersion: Jun-1999; PackageReference: J014; Publisher: Altium Limited; PackageDescription: DIP, Ceramic, 14-Pin, Row Spacing 7.62 mm, Pitch 2.54 mm; ComponentLink1Description: Manufacturer Link; ComponentLink1URL: http://www.ti.com/
footprint J014 (DIP, 14-Leads, Row Spacing 7.62mm, Pitch 2.54mm, Body 19.56x6.92mm)
3D model J014 (DIP, Ceramic, 14-Pin, Row Spacing 7.62 mm, Pitch 2.54 mm)
pins: 1 1A (in), 2 1B (in), 3 1C (in), 4 2C (in), 5 2A (in), 6 2B (in), 7 GND (power), 8 2Y (oc), 9 ~{2Z} (oc), 10 D (in), 11 VCC- (power), 12 ~{1Z} (oc), 13 1Y (oc), 14 VCC+ (power)

## SN75109AN
designator U?
Dual Line Driver; Note: When using only one channel, the other channel should be inhibited and/or have it's outputs grounded.; Published: 15-May-2002; LatestRevisionDate: 29-May-2009; LatestRevisionNote: Component Body Added.; DatasheetVersion: May-1990; PackageVersion: Oct-1995; PackageReference: N014; Publisher: Altium Limited; PackageDescription: DIP, 14-Pin, Row Spacing 7.62 mm, Pitch 2.54 mm; ComponentLink1Description: Manufacturer Link; ComponentLink1URL: http://www.ti.com/
footprint N014 (DIP, 14-Leads, Row Spacing 7.62mm, Pitch 2.54mm, Body 19.31x6.35mm)
3D model N014 (DIP, 14-Pin, Row Spacing 7.62 mm, Pitch 2.54 mm)
pins: 1 1A (in), 2 1B (in), 3 1C (in), 4 2C (in), 5 2A (in), 6 2B (in), 7 GND (power), 8 2Y (oc), 9 ~{2Z} (oc), 10 D (in), 11 VCC- (power), 12 ~{1Z} (oc), 13 1Y (oc), 14 VCC+ (power)

## SN75110AD
designator U?
Dual Line Driver; Note: When using only one channel, the other channel should be inhibited and/or have it's outputs grounded.; Published: 15-May-2002; LatestRevisionDate: 13-Apr-2006; LatestRevisionNote: IPC-7351 Footprint Added.; DatasheetVersion: May-1990; PackageVersion: Nov-2006; PackageReference: D014; Publisher: Altium Limited; PackageDescription: 14-Pin Small Outline Integrated Circuit 1.27 mm Pitch; Code_JEDEC: MS-012-AB; Code_IPC: SOIC127P600-14; ComponentLink1Description: Manufacturer Link; ComponentLink1URL: http://www.ti.com/; ComponentLink2Description: Datasheet; ComponentLink2URL: http://www-s.ti.com/sc/ds/sn55110a.pdf
footprint D014_N (SOIC, 14-Leads, Body 8.7x3.9mm, Pitch 1.27mm, IPC Medium Density)
footprint D014_L (SOIC, 14-Leads, Body 8.7x3.9mm, Pitch 1.27mm, IPC High Density)
footprint D014_M (SOIC, 14-Leads, Body 8.7x3.9mm, Pitch 1.27mm, IPC Low Density)
3D model D014 (14-Pin Small Outline Integrated Circuit 1.27 mm Pitch)
pins: 1 1A (in), 2 1B (in), 3 1C (in), 4 2C (in), 5 2A (in), 6 2B (in), 7 GND (power), 8 2Y (oc), 9 ~{2Z} (oc), 10 D (in), 11 VCC- (power), 12 ~{1Z} (oc), 13 1Y (oc), 14 VCC+ (power)

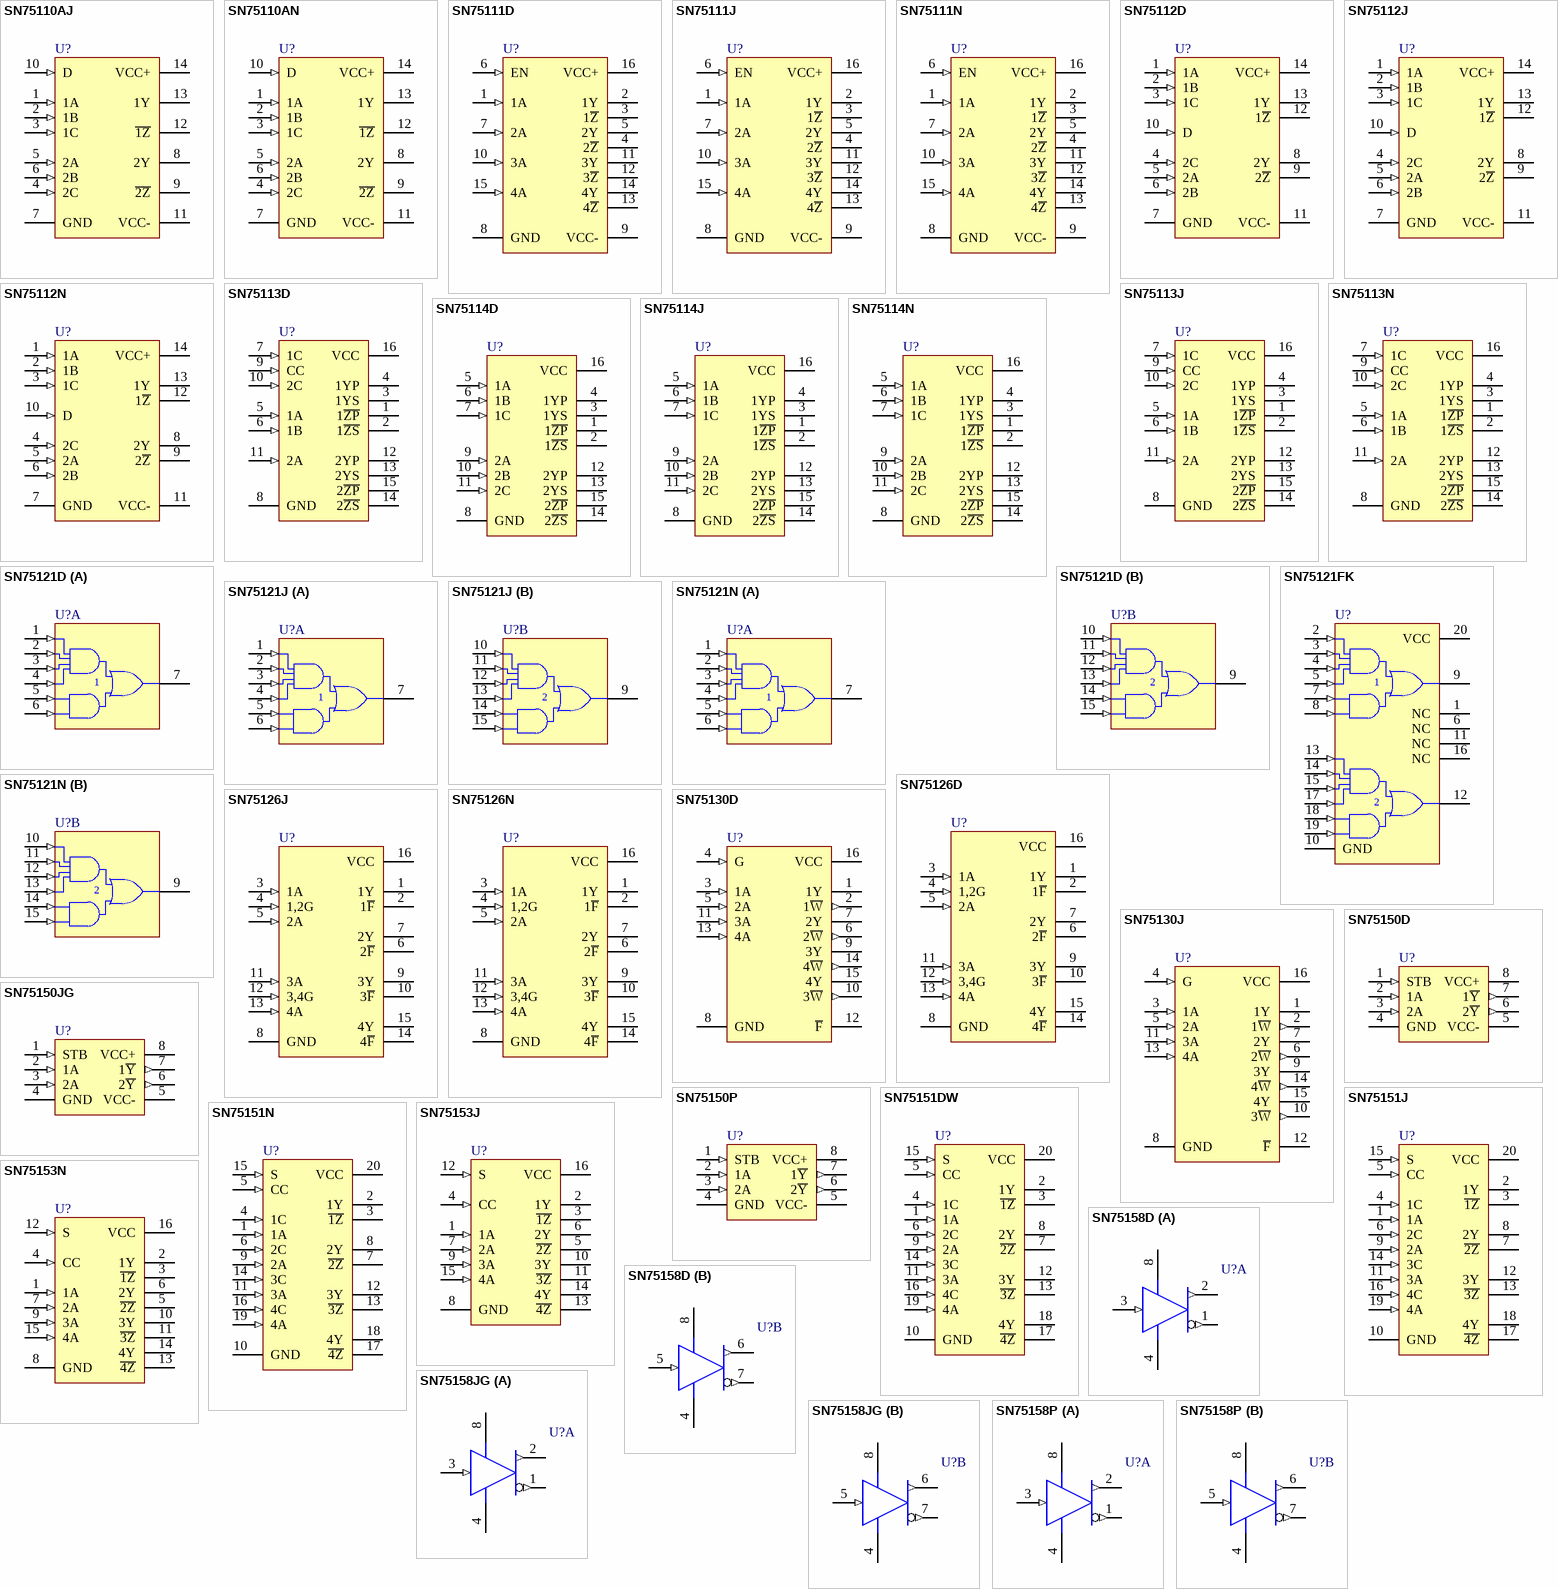
[diagram p3: symbols SN75110AJ to SN75158P]

## SN75110AJ
designator U?
Dual Line Driver; Note: When using only one channel, the other channel should be inhibited and/or have it's outputs grounded.; Published: 15-May-2002; LatestRevisionDate: 29-May-2009; LatestRevisionNote: Component Body Added.; DatasheetVersion: May-1990; PackageVersion: Jun-1999; PackageReference: J014; Publisher: Altium Limited; PackageDescription: DIP, Ceramic, 14-Pin, Row Spacing 7.62 mm, Pitch 2.54 mm; ComponentLink1Description: Manufacturer Link; ComponentLink1URL: http://www.ti.com/
footprint J014 (DIP, 14-Leads, Row Spacing 7.62mm, Pitch 2.54mm, Body 19.56x6.92mm)
3D model J014 (DIP, Ceramic, 14-Pin, Row Spacing 7.62 mm, Pitch 2.54 mm)
pins: 1 1A (in), 2 1B (in), 3 1C (in), 4 2C (in), 5 2A (in), 6 2B (in), 7 GND (power), 8 2Y (oc), 9 ~{2Z} (oc), 10 D (in), 11 VCC- (power), 12 ~{1Z} (oc), 13 1Y (oc), 14 VCC+ (power)

## SN75110AN
designator U?
Dual Line Driver; Note: When using only one channel, the other channel should be inhibited and/or have it's outputs grounded.; Published: 15-May-2002; LatestRevisionDate: 29-May-2009; LatestRevisionNote: Component Body Added.; DatasheetVersion: May-1990; PackageVersion: Oct-1995; PackageReference: N014; Publisher: Altium Limited; PackageDescription: DIP, 14-Pin, Row Spacing 7.62 mm, Pitch 2.54 mm; ComponentLink1Description: Manufacturer Link; ComponentLink1URL: http://www.ti.com/; ComponentLink2Description: Datasheet; ComponentLink2URL: http://www-s.ti.com/sc/ds/sn55110a.pdf
footprint N014 (DIP, 14-Leads, Row Spacing 7.62mm, Pitch 2.54mm, Body 19.31x6.35mm)
3D model N014 (DIP, 14-Pin, Row Spacing 7.62 mm, Pitch 2.54 mm)
pins: 1 1A (in), 2 1B (in), 3 1C (in), 4 2C (in), 5 2A (in), 6 2B (in), 7 GND (power), 8 2Y (oc), 9 ~{2Z} (oc), 10 D (in), 11 VCC- (power), 12 ~{1Z} (oc), 13 1Y (oc), 14 VCC+ (power)

## SN75111D
designator U?
Quadruple Line Driver with Common Enable; Note: To minimise power dissipation, all unused inputs should be grounded.; Published: 15-May-2002; LatestRevisionDate: 13-Apr-2006; LatestRevisionNote: IPC-7351 Footprint Added.; DatasheetVersion: Oct-1988; PackageVersion: Jan-1998; PackageReference: D016; Publisher: Altium Limited; PackageDescription: 16-Pin Small Outline Integrated Circuit 1.27 mm Pitch; Code_IPC: SOIC127P600-16; ComponentLink1Description: Manufacturer Link; ComponentLink1URL: http://www.ti.com/
footprint D016_N (SOIC, 16-Leads, Body 9.9x3.9mm, Pitch 1.27mm, IPC Medium Density)
footprint D016_L (SOIC, 16-Leads, Body 9.9x3.9mm, Pitch 1.27mm, IPC High Density)
footprint D016_M (SOIC, 16-Leads, Body 9.9x3.9mm, Pitch 1.27mm, IPC Low Density)
3D model D016 (16-Pin Small Outline Integrated Circuit 1.27 mm Pitch)
pins: 1 1A (in), 2 1Y (oc), 3 1~{Z} (oc), 4 2~{Z} (oc), 5 2Y (oc), 6 EN (in), 7 2A (in), 8 GND (power), 9 VCC- (power), 10 3A (in), 11 3Y (oc), 12 3~{Z} (oc), 13 4~{Z} (oc), 14 4Y (oc), 15 4A (in), 16 VCC+ (power)

## SN75111J
designator U?
Quadruple Line Driver with Common Enable; Note: To minimise power dissipation, all unused inputs should be grounded.; Published: 15-May-2002; LatestRevisionDate: 29-May-2009; LatestRevisionNote: Component Body Added.; DatasheetVersion: Oct-1988; PackageVersion: Jun-1999; PackageReference: J016; Publisher: Altium Limited; PackageDescription: DIP, Ceramic, 16-Pin, Row Spacing 7.62 mm, Pitch 2.54 mm; ComponentLink1Description: Manufacturer Link; ComponentLink1URL: http://www.ti.com/
footprint J016 (DIP, 16-Leads, Row Spacing 7.62mm, Pitch 2.54mm, Body 19.56x6.92mm)
3D model J016 (DIP, Ceramic, 16-Pin, Row Spacing 7.62 mm, Pitch 2.54 mm)
pins: 1 1A (in), 2 1Y (oc), 3 1~{Z} (oc), 4 2~{Z} (oc), 5 2Y (oc), 6 EN (in), 7 2A (in), 8 GND (power), 9 VCC- (power), 10 3A (in), 11 3Y (oc), 12 3~{Z} (oc), 13 4~{Z} (oc), 14 4Y (oc), 15 4A (in), 16 VCC+ (power)

## SN75111N
designator U?
Quadruple Line Driver with Common Enable; Note: To minimise power dissipation, all unused inputs should be grounded.; Published: 15-May-2002; LatestRevisionDate: 29-May-2009; LatestRevisionNote: Component Body Added.; DatasheetVersion: Oct-1988; PackageVersion: Oct-1995; PackageReference: N016; Publisher: Altium Limited; PackageDescription: DIP, 16-Pin, Row Spacing 7.62 mm, Pitch 2.54 mm; Code_JEDEC: MS-001-BB; ComponentLink1Description: Manufacturer Link; ComponentLink1URL: http://www.ti.com/
footprint N016 (DIP, 16-Leads, Row Spacing 7.62mm, Pitch 2.54mm, Body 19.31x6.35mm)
3D model N016 (DIP, 16-Pin, Row Spacing 7.62 mm, Pitch 2.54 mm)
pins: 1 1A (in), 2 1Y (oc), 3 1~{Z} (oc), 4 2~{Z} (oc), 5 2Y (oc), 6 EN (in), 7 2A (in), 8 GND (power), 9 VCC- (power), 10 3A (in), 11 3Y (oc), 12 3~{Z} (oc), 13 4~{Z} (oc), 14 4Y (oc), 15 4A (in), 16 VCC+ (power)

## SN75112D
designator U?
Dual Line Driver; Note: When using only one channel, the other channel should be inhibited and/or have it's outputs grounded.; Published: 15-May-2002; LatestRevisionDate: 13-Apr-2006; LatestRevisionNote: IPC-7351 Footprint Added.; DatasheetVersion: May-1990; PackageVersion: Nov-2006; PackageReference: D014; Publisher: Altium Limited; PackageDescription: 14-Pin Small Outline Integrated Circuit 1.27 mm Pitch; Code_JEDEC: MS-012-AB; Code_IPC: SOIC127P600-14; ComponentLink1Description: Manufacturer Link; ComponentLink1URL: http://www.ti.com/; ComponentLink2Description: Datasheet; ComponentLink2URL: http://www-s.ti.com/sc/ds/sn55110a.pdf
footprint D014_N (SOIC, 14-Leads, Body 8.7x3.9mm, Pitch 1.27mm, IPC Medium Density)
footprint D014_L (SOIC, 14-Leads, Body 8.7x3.9mm, Pitch 1.27mm, IPC High Density)
footprint D014_M (SOIC, 14-Leads, Body 8.7x3.9mm, Pitch 1.27mm, IPC Low Density)
3D model D014 (14-Pin Small Outline Integrated Circuit 1.27 mm Pitch)
pins: 1 1A (in), 2 1B (in), 3 1C (in), 4 2C (in), 5 2A (in), 6 2B (in), 7 GND (power), 8 2Y (oc), 9 2~{Z} (oc), 10 D (in), 11 VCC- (power), 12 1~{Z} (oc), 13 1Y (oc), 14 VCC+ (power)

## SN75112J
designator U?
Dual Line Driver; Note: When using only one channel, the other channel should be inhibited and/or have it's outputs grounded.; Published: 15-May-2002; LatestRevisionDate: 29-May-2009; LatestRevisionNote: Component Body Added.; DatasheetVersion: May-1990; PackageVersion: Jun-1999; PackageReference: J014; Publisher: Altium Limited; PackageDescription: DIP, Ceramic, 14-Pin, Row Spacing 7.62 mm, Pitch 2.54 mm; ComponentLink1Description: Manufacturer Link; ComponentLink1URL: http://www.ti.com/
footprint J014 (DIP, 14-Leads, Row Spacing 7.62mm, Pitch 2.54mm, Body 19.56x6.92mm)
3D model J014 (DIP, Ceramic, 14-Pin, Row Spacing 7.62 mm, Pitch 2.54 mm)
pins: 1 1A (in), 2 1B (in), 3 1C (in), 4 2C (in), 5 2A (in), 6 2B (in), 7 GND (power), 8 2Y (oc), 9 2~{Z} (oc), 10 D (in), 11 VCC- (power), 12 1~{Z} (oc), 13 1Y (oc), 14 VCC+ (power)

## SN75112N
designator U?
Dual Line Driver; Note: When using only one channel, the other channel should be inhibited and/or have it's outputs grounded.; Published: 15-May-2002; LatestRevisionDate: 29-May-2009; LatestRevisionNote: Component Body Added.; DatasheetVersion: May-1990; PackageVersion: Oct-1995; PackageReference: N014; Publisher: Altium Limited; PackageDescription: DIP, 14-Pin, Row Spacing 7.62 mm, Pitch 2.54 mm; ComponentLink1Description: Manufacturer Link; ComponentLink1URL: http://www.ti.com/; ComponentLink2Description: Datasheet; ComponentLink2URL: http://www-s.ti.com/sc/ds/sn55110a.pdf
footprint N014 (DIP, 14-Leads, Row Spacing 7.62mm, Pitch 2.54mm, Body 19.31x6.35mm)
3D model N014 (DIP, 14-Pin, Row Spacing 7.62 mm, Pitch 2.54 mm)
pins: 1 1A (in), 2 1B (in), 3 1C (in), 4 2C (in), 5 2A (in), 6 2B (in), 7 GND (power), 8 2Y (oc), 9 2~{Z} (oc), 10 D (in), 11 VCC- (power), 12 1~{Z} (oc), 13 1Y (oc), 14 VCC+ (power)

## SN75113D
designator U?
Dual Differential Line Driver; Note: Choice of Open-Collector, Open-Emitter, or Hi-Z outputs.; Published: 15-May-2002; LatestRevisionDate: 13-Apr-2006; LatestRevisionNote: IPC-7351 Footprint Added.; DatasheetVersion: Sep-1986; PackageVersion: Jan-1998; PackageReference: D016; Publisher: Altium Limited; PackageDescription: 16-Pin Small Outline Integrated Circuit 1.27 mm Pitch; Code_IPC: SOIC127P600-16; ComponentLink1Description: Manufacturer Link; ComponentLink1URL: http://www.ti.com/; ComponentLink2Description: Datasheet; ComponentLink2URL: http://www-s.ti.com/sc/ds/sn55113.pdf
footprint D016_N (SOIC, 16-Leads, Body 9.9x3.9mm, Pitch 1.27mm, IPC Medium Density)
footprint D016_L (SOIC, 16-Leads, Body 9.9x3.9mm, Pitch 1.27mm, IPC High Density)
footprint D016_M (SOIC, 16-Leads, Body 9.9x3.9mm, Pitch 1.27mm, IPC Low Density)
3D model D016 (16-Pin Small Outline Integrated Circuit 1.27 mm Pitch)
pins: 1 1~{ZP} (hiz), 2 1~{ZS} (hiz), 3 1YS (hiz), 4 1YP (hiz), 5 1A (in), 6 1B (in), 7 1C (in), 8 GND (power), 9 CC (in), 10 2C (in), 11 2A (in), 12 2YP (hiz), 13 2YS (hiz), 14 2~{ZS} (hiz), 15 2~{ZP} (hiz), 16 VCC (power)

## SN75113J
designator U?
Dual Differential Line Driver; Note: Choice of Open-Collector, Open-Emitter, or Hi-Z outputs.; Published: 15-May-2002; LatestRevisionDate: 29-May-2009; LatestRevisionNote: Component Body Added.; DatasheetVersion: Sep-1986; PackageVersion: Jun-1999; PackageReference: J016; Publisher: Altium Limited; PackageDescription: DIP, Ceramic, 16-Pin, Row Spacing 7.62 mm, Pitch 2.54 mm; ComponentLink1Description: Manufacturer Link; ComponentLink1URL: http://www.ti.com/
footprint J016 (DIP, 16-Leads, Row Spacing 7.62mm, Pitch 2.54mm, Body 19.56x6.92mm)
3D model J016 (DIP, Ceramic, 16-Pin, Row Spacing 7.62 mm, Pitch 2.54 mm)
pins: 1 1~{ZP} (hiz), 2 1~{ZS} (hiz), 3 1YS (hiz), 4 1YP (hiz), 5 1A (in), 6 1B (in), 7 1C (in), 8 GND (power), 9 CC (in), 10 2C (in), 11 2A (in), 12 2YP (hiz), 13 2YS (hiz), 14 2~{ZS} (hiz), 15 2~{ZP} (hiz), 16 VCC (power)

## SN75113N
designator U?
Dual Differential Line Driver; Note: Choice of Open-Collector, Open-Emitter, or Hi-Z outputs.; Published: 15-May-2002; LatestRevisionDate: 29-May-2009; LatestRevisionNote: Component Body Added.; DatasheetVersion: Sep-1986; PackageVersion: Oct-1995; PackageReference: N016; Publisher: Altium Limited; PackageDescription: DIP, 16-Pin, Row Spacing 7.62 mm, Pitch 2.54 mm; Code_JEDEC: MS-001-BB; ComponentLink1Description: Manufacturer Link; ComponentLink1URL: http://www.ti.com/; ComponentLink2Description: Datasheet; ComponentLink2URL: http://www-s.ti.com/sc/ds/sn55113.pdf
footprint N016 (DIP, 16-Leads, Row Spacing 7.62mm, Pitch 2.54mm, Body 19.31x6.35mm)
3D model N016 (DIP, 16-Pin, Row Spacing 7.62 mm, Pitch 2.54 mm)
pins: 1 1~{ZP} (hiz), 2 1~{ZS} (hiz), 3 1YS (hiz), 4 1YP (hiz), 5 1A (in), 6 1B (in), 7 1C (in), 8 GND (power), 9 CC (in), 10 2C (in), 11 2A (in), 12 2YP (hiz), 13 2YS (hiz), 14 2~{ZS} (hiz), 15 2~{ZP} (hiz), 16 VCC (power)

## SN75114D
designator U?
Dual Differential Line Driver; Note: Choice of Open-Collector, Open-Emitter, or Totem-Pole outputs.; Published: 15-May-2002; LatestRevisionDate: 13-Apr-2006; LatestRevisionNote: IPC-7351 Footprint Added.; DatasheetVersion: Sep-1986; PackageVersion: Jan-1998; PackageReference: D016; Publisher: Altium Limited; PackageDescription: 16-Pin Small Outline Integrated Circuit 1.27 mm Pitch; Code_IPC: SOIC127P600-16; ComponentLink1Description: Manufacturer Link; ComponentLink1URL: http://www.ti.com/; ComponentLink2Description: Datasheet; ComponentLink2URL: http://www-s.ti.com/sc/ds/sn55114.pdf
footprint D016_N (SOIC, 16-Leads, Body 9.9x3.9mm, Pitch 1.27mm, IPC Medium Density)
footprint D016_L (SOIC, 16-Leads, Body 9.9x3.9mm, Pitch 1.27mm, IPC High Density)
footprint D016_M (SOIC, 16-Leads, Body 9.9x3.9mm, Pitch 1.27mm, IPC Low Density)
3D model D016 (16-Pin Small Outline Integrated Circuit 1.27 mm Pitch)
pins: 1 1~{ZP} (oe), 2 1~{ZS} (oc), 3 1YS (oc), 4 1YP (oe), 5 1A (in), 6 1B (in), 7 1C (in), 8 GND (power), 9 2A (in), 10 2B (in), 11 2C (in), 12 2YP (oe), 13 2YS (oc), 14 2~{ZS} (oc), 15 2~{ZP} (oe), 16 VCC (power)

## SN75114J
designator U?
Dual Differential Line Driver; Note: Choice of Open-Collector, Open-Emitter, or Totem-Pole outputs.; Published: 15-May-2002; LatestRevisionDate: 29-May-2009; LatestRevisionNote: Component Body Added.; DatasheetVersion: Sep-1986; PackageVersion: Jun-1999; PackageReference: J016; Publisher: Altium Limited; PackageDescription: DIP, Ceramic, 16-Pin, Row Spacing 7.62 mm, Pitch 2.54 mm; ComponentLink1Description: Manufacturer Link; ComponentLink1URL: http://www.ti.com/; ComponentLink2Description: Datasheet; ComponentLink2URL: http://www-s.ti.com/sc/ds/sn55114.pdf
footprint J016 (DIP, 16-Leads, Row Spacing 7.62mm, Pitch 2.54mm, Body 19.56x6.92mm)
3D model J016 (DIP, Ceramic, 16-Pin, Row Spacing 7.62 mm, Pitch 2.54 mm)
pins: 1 1~{ZP} (oe), 2 1~{ZS} (oc), 3 1YS (oc), 4 1YP (oe), 5 1A (in), 6 1B (in), 7 1C (in), 8 GND (power), 9 2A (in), 10 2B (in), 11 2C (in), 12 2YP (oe), 13 2YS (oc), 14 2~{ZS} (oc), 15 2~{ZP} (oe), 16 VCC (power)

## SN75114N
designator U?
Dual Differential Line Driver; Note: Choice of Open-Collector, Open-Emitter, or Totem-Pole outputs.; Published: 15-May-2002; LatestRevisionDate: 29-May-2009; LatestRevisionNote: Component Body Added.; DatasheetVersion: Sep-1986; PackageVersion: Oct-1995; PackageReference: N016; Publisher: Altium Limited; PackageDescription: DIP, 16-Pin, Row Spacing 7.62 mm, Pitch 2.54 mm; Code_JEDEC: MS-001-BB; ComponentLink1Description: Manufacturer Link; ComponentLink1URL: http://www.ti.com/; ComponentLink2Description: Datasheet; ComponentLink2URL: http://www-s.ti.com/sc/ds/sn55114.pdf
footprint N016 (DIP, 16-Leads, Row Spacing 7.62mm, Pitch 2.54mm, Body 19.31x6.35mm)
3D model N016 (DIP, 16-Pin, Row Spacing 7.62 mm, Pitch 2.54 mm)
pins: 1 1~{ZP} (oe), 2 1~{ZS} (oc), 3 1YS (oc), 4 1YP (oe), 5 1A (in), 6 1B (in), 7 1C (in), 8 GND (power), 9 2A (in), 10 2B (in), 11 2C (in), 12 2YP (oe), 13 2YS (oc), 14 2~{ZS} (oc), 15 2~{ZP} (oe), 16 VCC (power)

## SN75121D
designator U?
Dual Line Driver; Note: Open-Emitter outputs are uncommitted, allowing AND-OR logic configurations.; ComponentAvailability: Obsolete; Published: 15-May-2002; LatestRevisionDate: 13-Apr-2006; LatestRevisionNote: IPC-7351 Footprint Added.; DatasheetVersion: Sep-1986; PackageVersion: Jan-1998; PackageReference: D016; Publisher: Altium Limited; PackageDescription: 16-Pin Small Outline Integrated Circuit 1.27 mm Pitch; Code_IPC: SOIC127P600-16; ComponentLink1Description: Manufacturer Link; ComponentLink1URL: http://www.ti.com/; ComponentLink2Description: Datasheet; ComponentLink2URL: http://www-s.ti.com/sc/ds/sn55121.pdf
footprint D016_N (SOIC, 16-Leads, Body 9.9x3.9mm, Pitch 1.27mm, IPC Medium Density)
footprint D016_L (SOIC, 16-Leads, Body 9.9x3.9mm, Pitch 1.27mm, IPC High Density)
footprint D016_M (SOIC, 16-Leads, Body 9.9x3.9mm, Pitch 1.27mm, IPC Low Density)
3D model D016 (16-Pin Small Outline Integrated Circuit 1.27 mm Pitch)
pins on every part: 8 GND (power) hidden to GND, 16 VCC (power) hidden to VCC
part A pins: 1 A (in), 2 B (in), 3 C (in), 4 D (in), 5 E (in), 6 F (in), 7 Y (oe)
part B pins: 9 Y (oe), 10 A (in), 11 B (in), 12 C (in), 13 D (in), 14 E (in), 15 F (in)

## SN75121FK
designator U?
Dual Line Driver; Note: Open-Emitter outputs are uncommitted, allowing AND-OR logic configurations.; Published: 15-May-2002; LatestRevisionDate: 29-May-2009; LatestRevisionNote: IPC-7351 Footprint Added.; DatasheetVersion: Sep-1986; PackageVersion: 1998; PackageReference: FK020; Publisher: Altium Limited; PackageDescription: 20-Pin Leadless Chip Carrier 1.27 mm Pitch; Code_JEDEC: MS-004-CB; ComponentLink1Description: Manufacturer Link; ComponentLink1URL: http://www.ti.com/
footprint FK020_N (Leadless Chip Carrier, 20-Leads, Body 8.9x8.9mm, Pitch 1.27mm, IPC Medium Density)
footprint FK020_L (Leadless Chip Carrier, 20-Leads, Body 8.9x8.9mm, Pitch 1.27mm, IPC High Density)
footprint FK020_M (Leadless Chip Carrier, 20-Leads, Body 8.9x8.9mm, Pitch 1.27mm, IPC Low Density)
pins: 1 NC, 2 1A (in), 3 1B (in), 4 1C (in), 5 1D (in), 6 NC, 7 1E (in), 8 1F (in), 9 1Y (oe), 10 GND (power), 11 NC, 12 2Y (oe), 13 2A (in), 14 2B (in), 15 2C (in), 16 NC, 17 2D (in), 18 2E (in), 19 2F (in), 20 VCC (power)

## SN75121J
designator U?
Dual Line Driver; Note: Open-Emitter outputs are uncommitted, allowing AND-OR logic configurations.; Published: 15-May-2002; LatestRevisionDate: 29-May-2009; LatestRevisionNote: Component Body Added.; DatasheetVersion: Sep-1986; PackageVersion: Jun-1999; PackageReference: J016; Publisher: Altium Limited; PackageDescription: DIP, Ceramic, 16-Pin, Row Spacing 7.62 mm, Pitch 2.54 mm; ComponentLink1Description: Manufacturer Link; ComponentLink1URL: http://www.ti.com/
footprint J016 (DIP, 16-Leads, Row Spacing 7.62mm, Pitch 2.54mm, Body 19.56x6.92mm)
3D model J016 (DIP, Ceramic, 16-Pin, Row Spacing 7.62 mm, Pitch 2.54 mm)
pins on every part: 8 GND (power) hidden to GND, 16 VCC (power) hidden to VCC
part A pins: 1 A (in), 2 B (in), 3 C (in), 4 D (in), 5 E (in), 6 F (in), 7 Y (oe)
part B pins: 9 Y (oe), 10 A (in), 11 B (in), 12 C (in), 13 D (in), 14 E (in), 15 F (in)

## SN75121N
designator U?
Dual Line Driver; Note: Open-Emitter outputs are uncommitted, allowing AND-OR logic configurations.; Published: 15-May-2002; LatestRevisionDate: 29-May-2009; LatestRevisionNote: Component Body Added.; DatasheetVersion: Sep-1986; PackageVersion: Oct-1995; PackageReference: N016; Publisher: Altium Limited; PackageDescription: DIP, 16-Pin, Row Spacing 7.62 mm, Pitch 2.54 mm; Code_JEDEC: MS-001-BB; ComponentLink1Description: Manufacturer Link; ComponentLink1URL: http://www.ti.com/; ComponentLink2Description: Datasheet; ComponentLink2URL: http://www-s.ti.com/sc/ds/sn55121.pdf
footprint N016 (DIP, 16-Leads, Row Spacing 7.62mm, Pitch 2.54mm, Body 19.31x6.35mm)
3D model N016 (DIP, 16-Pin, Row Spacing 7.62 mm, Pitch 2.54 mm)
pins on every part: 8 GND (power) hidden to GND, 16 VCC (power) hidden to VCC
part A pins: 1 A (in), 2 B (in), 3 C (in), 4 D (in), 5 E (in), 6 F (in), 7 Y (oe)
part B pins: 9 Y (oe), 10 A (in), 11 B (in), 12 C (in), 13 D (in), 14 E (in), 15 F (in)

## SN75126D
designator U?
Quadruple Line Driver; Published: 15-May-2002; LatestRevisionDate: 13-Apr-2006; LatestRevisionNote: IPC-7351 Footprint Added.; DatasheetVersion: Feb-1990; PackageVersion: Jan-1998; PackageReference: D016; Publisher: Altium Limited; PackageDescription: 16-Pin Small Outline Integrated Circuit 1.27 mm Pitch; Code_IPC: SOIC127P600-16; ComponentLink1Description: Manufacturer Link; ComponentLink1URL: http://www.ti.com/; ComponentLink2Description: Datasheet; ComponentLink2URL: http://www-s.ti.com/sc/ds/sn75126.pdf
footprint D016_N (SOIC, 16-Leads, Body 9.9x3.9mm, Pitch 1.27mm, IPC Medium Density)
footprint D016_L (SOIC, 16-Leads, Body 9.9x3.9mm, Pitch 1.27mm, IPC High Density)
footprint D016_M (SOIC, 16-Leads, Body 9.9x3.9mm, Pitch 1.27mm, IPC Low Density)
3D model D016 (16-Pin Small Outline Integrated Circuit 1.27 mm Pitch)
pins: 1 1Y, 2 1~{F} (oe), 3 1A (in), 4 1,2G (in), 5 2A (in), 6 2~{F} (oe), 7 2Y, 8 GND (power), 9 3Y, 10 3~{F} (oe), 11 3A (in), 12 3,4G (in), 13 4A (in), 14 4~{F} (oe), 15 4Y, 16 VCC (power)

## SN75126J
designator U?
Quadruple Line Driver; Published: 15-May-2002; LatestRevisionDate: 29-May-2009; LatestRevisionNote: Component Body Added.; DatasheetVersion: Feb-1990; PackageVersion: Jun-1999; PackageReference: J016; Publisher: Altium Limited; PackageDescription: DIP, Ceramic, 16-Pin, Row Spacing 7.62 mm, Pitch 2.54 mm; ComponentLink1Description: Manufacturer Link; ComponentLink1URL: http://www.ti.com/
footprint J016 (DIP, 16-Leads, Row Spacing 7.62mm, Pitch 2.54mm, Body 19.56x6.92mm)
3D model J016 (DIP, Ceramic, 16-Pin, Row Spacing 7.62 mm, Pitch 2.54 mm)
pins: 1 1Y, 2 1~{F} (oe), 3 1A (in), 4 1,2G (in), 5 2A (in), 6 2~{F} (oe), 7 2Y, 8 GND (power), 9 3Y, 10 3~{F} (oe), 11 3A (in), 12 3,4G (in), 13 4A (in), 14 4~{F} (oe), 15 4Y, 16 VCC (power)

## SN75126N
designator U?
Quadruple Line Driver; ComponentAvailability: Obsolete; Published: 15-May-2002; LatestRevisionDate: 29-May-2009; LatestRevisionNote: Component Body Added.; DatasheetVersion: Feb-1990; PackageVersion: Oct-1995; PackageReference: N016; Publisher: Altium Limited; PackageDescription: DIP, 16-Pin, Row Spacing 7.62 mm, Pitch 2.54 mm; Code_JEDEC: MS-001-BB; ComponentLink1Description: Manufacturer Link; ComponentLink1URL: http://www.ti.com/; ComponentLink2Description: Datasheet; ComponentLink2URL: http://www-s.ti.com/sc/ds/sn75126.pdf
footprint N016 (DIP, 16-Leads, Row Spacing 7.62mm, Pitch 2.54mm, Body 19.31x6.35mm)
3D model N016 (DIP, 16-Pin, Row Spacing 7.62 mm, Pitch 2.54 mm)
pins: 1 1Y, 2 1~{F} (oe), 3 1A (in), 4 1,2G (in), 5 2A (in), 6 2~{F} (oe), 7 2Y, 8 GND (power), 9 3Y, 10 3~{F} (oe), 11 3A (in), 12 3,4G (in), 13 4A (in), 14 4~{F} (oe), 15 4Y, 16 VCC (power)